# EAGLE library part SWITCH_ELMA_07R142X (library 1A-meinLib)
Drehschalter 4-polig, ELMA 07R, horizontal mit Achse Ø3mm
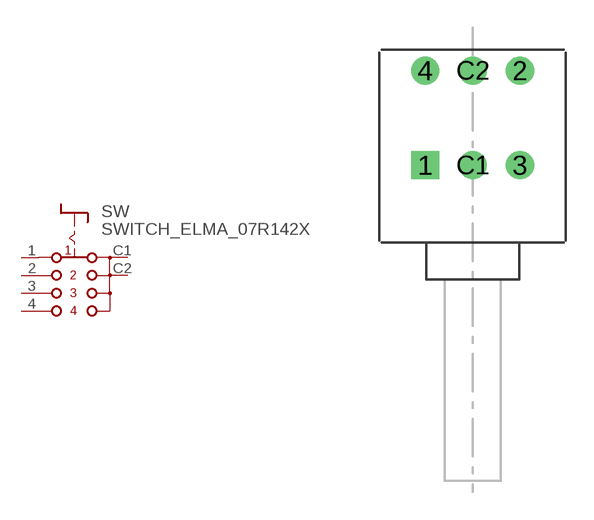
[diagram p100: symbol with the pads of SWITCH_ELMA_07R; footprint SWITCH_ELMA_07R]

Designator prefix SW

## SWITCH_ELMA_07R142X  [SWITCH_ELMA_07R]
1  1  pas
2  2  pas
3  3  pas
4  4  pas
C1  A  pas
C2  B  pas

## Footprint SWITCH_ELMA_07R (pad centres in mm)
drill 1 square: 1 -2.54,0
drill 1 round: 2 2.54,5.08; 3 2.54,0; 4 -2.54,5.08; C1 0,0; C2 0,5.08